# EAGLE library part TC7662BCOA (library BBB_ADS1271_cape)
DC-TO-DC VOLTAGE CONVERTER
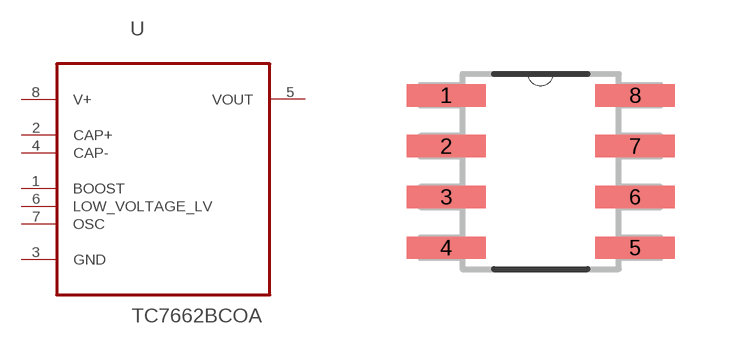
[diagram p1: symbol with the pads of MICROCHIP_BY_ELEMENT14_BATCH_1_SOIC127P600X175-8N; footprint MICROCHIP_BY_ELEMENT14_BATCH_1_SOIC127P600X175-8N]

Designator prefix -

## TC7662BCOA (MPN: TC7662BCOA; OC_FARNELL: 9762701; OC_NEWARK: 33C1189; PACKAGE: SOIC-8; SUPPLIER: Microchip)  [MICROCHIP_BY_ELEMENT14_BATCH_1_SOIC127P600X175-8N]
1  BOOST  in
2  CAP+  pas
3  GND  pas
4  CAP-  pas
5  VOUT  out
6  LOW_VOLTAGE_LV  in
7  OSC  in
8  V+  pwr

## Footprint MICROCHIP_BY_ELEMENT14_BATCH_1_SOIC127P600X175-8N (pad centres in mm)
smd 1.981 x 0.559: 1 -2.362,1.905; 2 -2.362,0.635; 3 -2.362,-0.635; 4 -2.362,-1.905; 5 2.362,-1.905; 6 2.362,-0.635; 7 2.362,0.635; 8 2.362,1.905